# Altium schematic symbol library RFX2401C.SchLib: 1 symbol
Pins are listed as number, name and electrical type; pins without a type are passive.

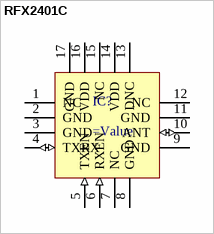
[diagram p0: symbol RFX2401C]

## RFX2401C
designator IC?
=Description
pins: 1 NC, 2 GND (power), 3 GND (power), 4 TXRX (io), 5 TXEN (in), 6 RXEN (in), 7 NC (power), 8 GND (power), 9 GND (power), 10 ANT (io), 11 GND (power), 12 NC (power), 13 DNC, 14 VDD (power), 15 NC (power), 16 VDD (power), 17 GND (power)